# Altium footprint library ECU.PcbLib: 19 footprints (part 1 of 2)
Each footprint in its own frame and in the unit in brackets; x right, y up, seen from the top. Pads: shape width x height; smd on the part's side, far side on the other; paste and mask are expansions set on the pad; w line width, h text height; cw(c..) or ccw(c..) is an arc to the next point about the centre after c.
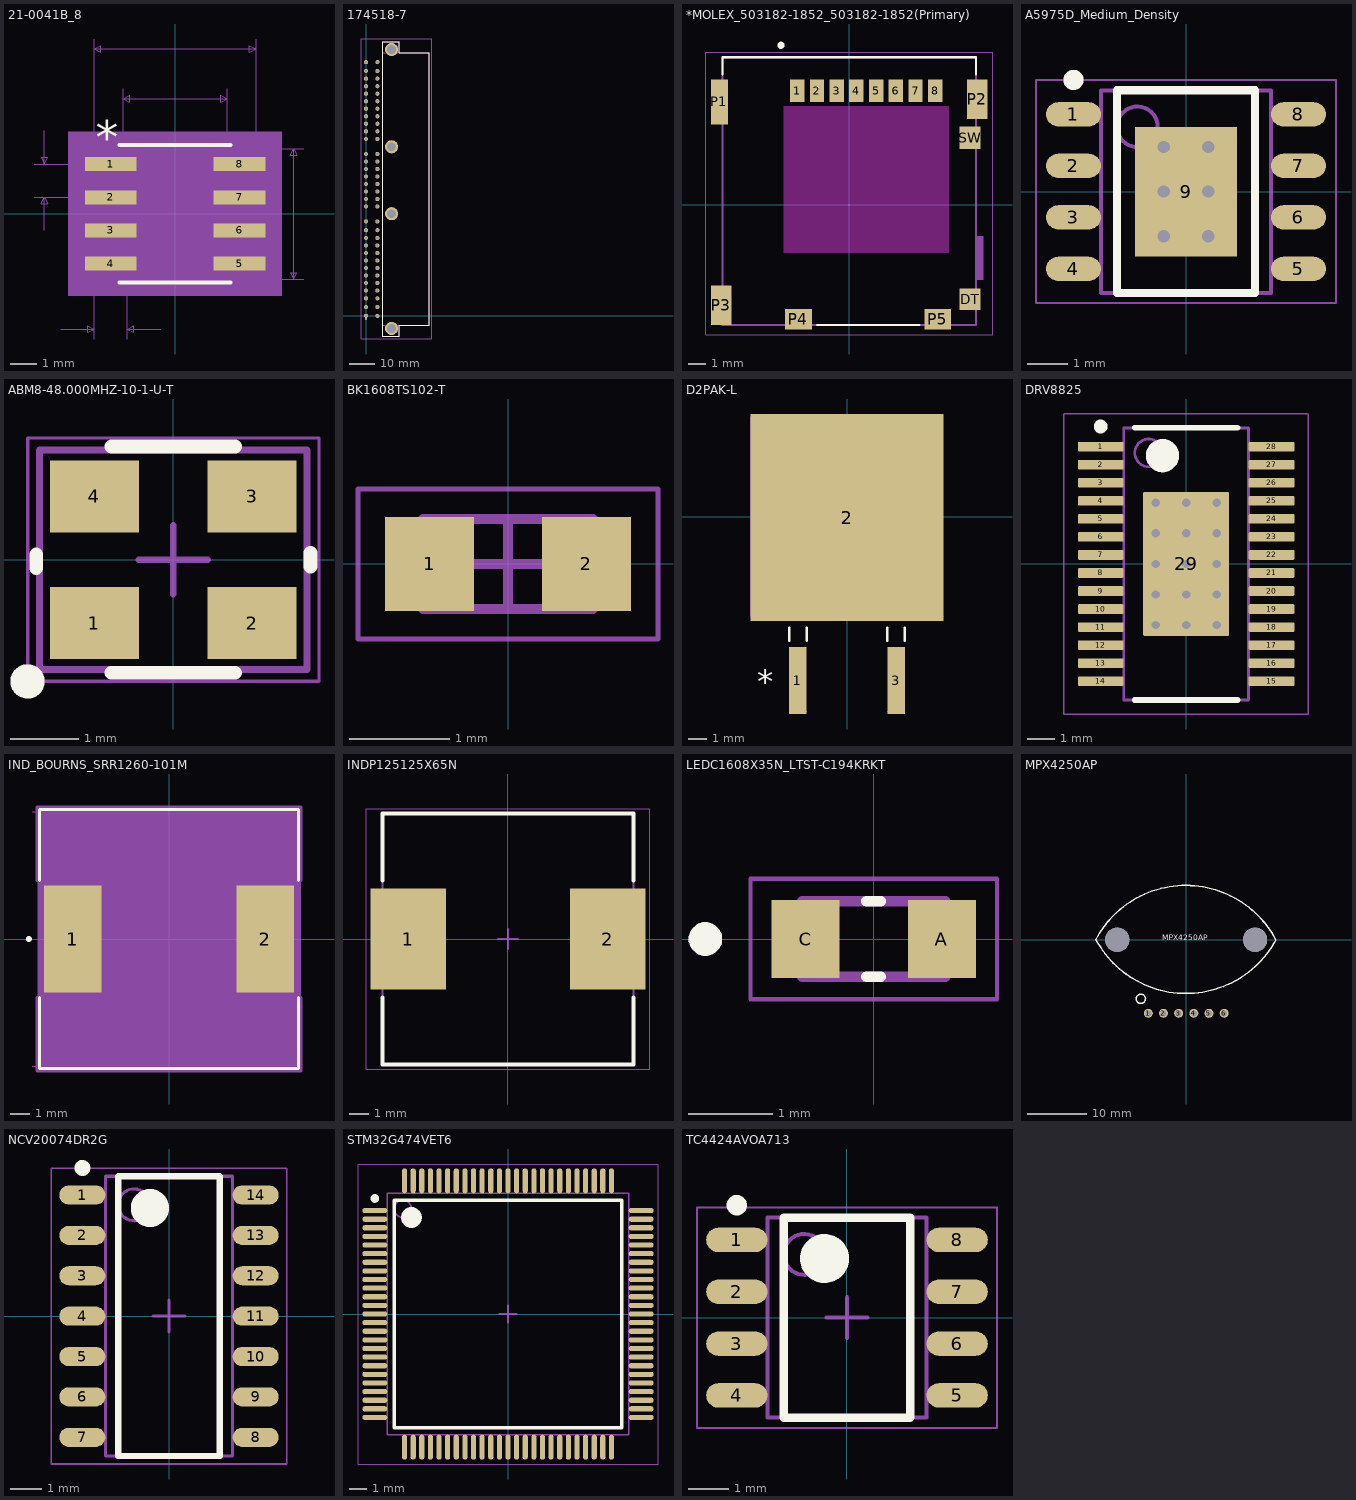
[diagram p0: the footprints below, top view; thin cyan lines are the x and y axes]

## 21-0041B_8 [mil]
pads (8):
  rect 78x21 smd paste+0 mask+0: 1(-97,75) 2(-97,25) 3(-97,-25) 4(-97,-75) 5(97,-75) 6(97,-25) 7(97,25) 8(97,75)
Top Overlay:
  lines w6: -83.5,-103.5 83.5,-103.5 ; -83.5,103.5 83.5,103.5
  text "*" at -119.5,91 h50
Mechanical 5:
  region: 161,-123.5 -161,-123.5 -161,123.5 161,123.5
Mechanical 7:
  lines w1: -212,25 -97,25 ; -212,75 -97,75 ; -197,-25 -197,25 ; -197,125 -197,75 ; -172,-173.5 -122,-173.5 ; -122,-188.5 -122,0 -122,263.5 ; -78.5,0 -78.5,188.5 ; -72,-188.5 -72,0 ; -22,-173.5 -72,-173.5 ; 0,-98.5 193.5,-98.5 ; 0,98.5 193.5,98.5 ; 78.5,0 78.5,188.5 ; 122,0 122,263.5 ; -197,25 -202,15 -192,15 -197,25 ; -197,75 -202,85 -192,85 -197,75 ; -122,-173.5 -132,-168.5 -132,-178.5 -122,-173.5 ; -122,248.5 122,248.5 ; -122,248.5 -112,253.5 -112,243.5 -122,248.5 ; -78.5,173.5 78.5,173.5 ; -78.5,173.5 -68.5,178.5 -68.5,168.5 -78.5,173.5 ; -72,-173.5 -62,-168.5 -62,-178.5 -72,-173.5 ; 78.5,173.5 68.5,178.5 68.5,168.5 78.5,173.5 ; 122,248.5 112,253.5 112,243.5 122,248.5 ; 178.5,-98.5 178.5,98.5 ; 178.5,-98.5 173.5,-88.5 183.5,-88.5 178.5,-98.5 ; 178.5,98.5 173.5,88.5 183.5,88.5 178.5,98.5
  text "Default Padstyle: RX78Y21D0T" at -350,-298.5 h50
  text "Pin One Padstyle: RX78Y21D0T" at -350,-358.5 h50
  text "Alt 1 Padstyle: OX60Y90D30P" at -337.5,-538.5 h50
  text "Alt 2 Padstyle: OX90Y60D30P" at -337.5,-598.5 h50
  text "0.157in/3.988mm" at -93.75,193.5 h25
  text "0.244in/6.198mm" at -93.75,268.5 h25
  text "0.197in/5.004mm" at 198.5,-12.5 h25
  text "0.05in/1.27mm" at -379.5,37.5 h25
  text "0.05in/1.27mm" at -178.25,-218.5 h25
Mechanical 13:
  lines w0: -12,98.5 ccw(c0,98.5) 12,98.5
  lines w1: -122,-84.5 -122,-65.5 -78.5,-65.5 -78.5,-84.5 -122,-84.5 ; -122,-34.5 -122,-15.5 -78.5,-15.5 -78.5,-34.5 -122,-34.5 ; -122,15.5 -122,34.5 -78.5,34.5 -78.5,15.5 -122,15.5 ; -122,65.5 -122,84.5 -78.5,84.5 -78.5,65.5 -122,65.5 ; -78.5,-98.5 78.5,-98.5 78.5,98.5 -78.5,98.5 -78.5,-98.5 ; 78.5,-84.5 78.5,-65.5 122,-65.5 122,-84.5 78.5,-84.5 ; 78.5,-34.5 78.5,-15.5 122,-15.5 122,-34.5 78.5,-34.5 ; 78.5,15.5 78.5,34.5 122,34.5 122,15.5 78.5,15.5 ; 78.5,65.5 78.5,84.5 122,84.5 122,65.5 78.5,65.5
  text "*" at -76,45.5 h50
Mechanical 15:
  region: -88.5,-95.5 -146,-95.5 -146,95.5 -88.5,95.5 -88.5,108.5 88.5,108.5 88.5,95.5 146,95.5 146,-95.5 88.5,-95.5 88.5,-108.5 -88.5,-108.5
  lines w6: -146,-95.5 -146,95.5 -88.5,95.5 -88.5,108.5 88.5,108.5 88.5,95.5 146,95.5 146,-95.5 88.5,-95.5 88.5,-108.5 -88.5,-108.5 -88.5,-95.5 -146,-95.5
3D body: height 10, standoff 0, extent 0,0 10,10

## 174518-7 [mm] "174518-7"
pads (68):
  round 1.65 hole 1.1: 1(0,0) 2(0,3.5) 3(0,7) 4(4.5,0) 5(4.5,3.5) 6(4.5,7) 7(0,34.2) 8(0,37.7) 9(4.5,34.2) 10(4.5,37.7) 11(0,70.6) 12(4.5,70.6) 13(0,97.8) 14(0,101.3) 15(4.5,97.8) 16(4.5,101.3) 17(0,10.1) 18(0,13.1) 19(0,16.1) 20(0,19.1) 21(0,22.1) 22(0,25.1) 23(0,28.1) 24(0,31.1) 25(4.5,10.1) 26(4.5,13.1) 27(4.5,16.1) 28(4.5,19.1) 29(4.5,22.1) 30(4.5,25.1) 31(4.5,28.1) 32(4.5,31.1) 33(0,43.65) 34(0,46.65) 35(0,49.65) 36(0,52.65) 37(0,55.65) 38(0,58.65) 39(0,61.65) 40(0,64.65) 41(4.5,43.65) 42(4.5,46.65) 43(4.5,49.65) 44(4.5,52.65) 45(4.5,55.65) 46(4.5,58.65) 47(4.5,61.65) 48(4.5,64.65) 49(0,73.7) 50(0,76.7) 51(0,79.7) 52(0,82.7) 53(0,85.7) 54(0,88.7) 55(0,91.7) 56(0,94.7) 57(4.5,73.7) 58(4.5,76.7) 59(4.5,79.7) 60(4.5,82.7) 61(4.5,85.7) 62(4.5,88.7) 63(4.5,91.7) 64(4.5,94.7)
  round 5.25 hole 3.5: MH1(10.2,106.35) MH2(10.2,67.5) MH3(10.2,40.8) MH4(10.2,-5.05)
Top Layer keep-out:
  region: 115.189,52.65
Top Overlay:
  lines w0.1: 6.7,-8.25 6.7,109.55 13.2,109.55 13.2,105.15 25.2,105.15 25.2,-3.85 13.2,-3.85 13.2,-8.25 6.7,-8.25
  lines w0.2: -0.1,-1.2 cw(c0,-1.2) 0.1,-1.2 cw(c0,-1.2) -0.1,-1.2
Mechanical 13:
  lines w0.2: 13.2,-3.85 13.2,-8.25 6.7,-8.25 6.7,-3.85 ; 13.2,105.15 13.2,109.55 6.7,109.55 6.7,105.15 ; 6.7,-3.85 25.2,-3.85 25.2,105.15 6.7,105.15 ; 6.7,-3.85 6.7,105.15
Mechanical 15:
  lines w0.1: -1.825,-9.25 26.2,-9.25 26.2,110.55 -1.825,110.55 -1.825,-9.25
3D body "c-178764-1-d2-3d.stp": height 22.5, standoff -4.4, extent -0.31,-8.2 25.51,109.6

## *MOLEX_503182-1852_503182-1852(Primary) [mm]
pads (15):
  rect 0.8x1.24 smd: 1(-2.9,6.355) 2(-1.8,6.355) 3(-0.7,6.355) 4(0.4,6.355) 5(1.5,6.355) 6(2.6,6.355) 7(3.7,6.355) 8(4.8,6.355)
  rect 1.16x1.2 smd: DT(6.74,-5.275)
  rect 0.95x2.5 smd: P1(-7.245,5.725)
  rect 1.15x2.2 smd: P2(7.145,5.875) P3(-7.145,-5.605)
  rect 1.5x1.15 smd: P4(-2.84,-6.4) P5(4.94,-6.4)
  rect 1.16x1.25 smd: SW(6.74,3.725)
Top Layer keep-out:
  region: -3.659,0.725 5.55,0.725 5.55,-2.682 -3.659,-2.682
  region: -3.658,5.485 5.55,5.485 5.55,0.727 -3.658,0.727
  region: -3.656,5.485 5.55,5.485 5.55,0.726 -3.656,0.726
  region: -3.655,5.485 5.55,5.485 5.55,0.726 -3.655,0.726
  region: -3.658,5.485 5.55,5.485 5.55,0.727 -3.658,0.727
  region: -3.656,5.485 5.55,5.485 5.55,0.726 -3.656,0.726
  region: -3.655,5.485 5.55,5.485 5.55,0.726 -3.655,0.726
  region: -3.658,5.485 5.55,5.485 5.55,0.727 -3.658,0.727
  region: -3.655,5.485 5.55,5.485 5.55,0.726 -3.655,0.726
  region: -3.659,0.725 5.55,0.725 5.55,-2.682 -3.659,-2.682
  region: -3.659,0.725 5.55,0.725 5.55,-2.682 -3.659,-2.682
  region: -3.656,5.485 5.55,5.485 5.55,0.726 -3.656,0.726
Top Overlay:
  circle w0.2: c-3.81,8.89 r0.1
  lines w0.127: -7.07,7.28 -7.07,8.225 7.07,8.225 7.07,7.28 ; -1.8,-6.725 3.9,-6.725
Mechanical 13:
  lines w0.127: -7.07,-6.725 -7.07,8.225 ; -7.07,-6.725 7.07,-6.725 ; -7.07,-6.725 -7.07,8.225 ; -7.07,-6.725 7.07,-6.725 ; -7.07,8.225 7.07,8.225 ; -7.07,8.225 7.07,8.225 ; 7.07,-6.725 7.07,8.225 ; 7.07,-6.725 7.07,8.225
Mechanical 15:
  region: 7.085,-1.775 7.47,-1.775 7.47,-4.184 7.085,-4.184
  lines w0.05: -8,-7.25 -8,8.5 8,8.5 8,-7.25 -8,-7.25
3D body "5031821852--3DModel-STEP-56544.STEP": height 1.45, standoff -0.02, extent -7.44,-6.675 7.5,8.275

## A5975D_Medium_Density [mm] "SOP, 8-Leads, Body 4.90x4.00mm, Pitch 1.27mm, Thermal Pad 3.20x2.51mm, IPC Medium Density"
height 1.7
pads (9):
  oval 1.35x0.6 smd: 1(-2.775,1.905) 2(-2.775,0.635) 3(-2.775,-0.635) 4(-2.775,-1.905) 5(2.775,-1.905) 6(2.775,-0.635) 7(2.775,0.635) 8(2.775,1.905)
  rect 2.51x3.2 smd: 9(0,0)
via 0.55,-1.1 diameter 0.6 hole 0.3
via -0.55,1.1 diameter 0.6 hole 0.3
via 0.55,1.1 diameter 0.6 hole 0.3
via 0.55,0 diameter 0.6 hole 0.3
via -0.55,0 diameter 0.6 hole 0.3
via -0.55,-1.1 diameter 0.6 hole 0.3
Top Overlay:
  circle w0.25: c-2.775,2.755 r0.125
  lines w0.2: -1.7,-2.5 1.7,-2.5 1.7,2.5 -1.7,2.5 -1.7,-2.5
Mechanical 13:
  circle w0.1: c-1.2,1.6 r0.5
  lines w0.1: -2.1,-2.5 2.1,-2.5 2.1,2.5 -2.1,2.5 -2.1,-2.5
Mechanical 15:
  lines w0.05: -3.7,-2.75 3.7,-2.75 3.7,2.75 -3.7,2.75 -3.7,-2.75
  lines w0.1: -0.5,0 0.5,0 ; 0,-0.5 0,0.5
3D body "A5975D_Medium_Density.step": height 1.7, standoff 0, extent -2.998,-2.5 2.998,2.5

## ABM8-48.000MHZ-10-1-U-T [mm] "ABM8-48.000MHZ-10-1-U-T"
height 1.2
pads (4):
  rect 1.3x1.05 smd: 1(-1.15,-0.925) 2(1.15,-0.925) 3(1.15,0.925) 4(-1.15,0.925)
Top Overlay:
  circle w0.25: c-2.125,-1.775 r0.125
  lines w0.2: -2,-0.125 -2,0.075 ; -0.906,-1.65 0.9,-1.65 ; -0.906,1.65 0.9,1.65 ; 2,-0.1 2,0.1
Mechanical 13:
  lines w0.1: -1.95,-1.6 -1.95,1.6 1.95,1.6 1.95,-1.6 -1.95,-1.6
Mechanical 15:
  lines w0.05: -2.125,-1.775 -2.125,1.775 2.125,1.775 2.125,-1.775 -2.125,-1.775
  lines w0.1: -0.5,0 0.5,0 ; 0,-0.5 0,0.5
3D body: height 1.2, standoff 0, extent -1.9,-1.55 1.9,1.55

## BK1608TS102-T [mm] "Chip Inductor, 2-Leads, Body 1.60x0.80mm, IPC Medium Density"
height 0.95
pads (2):
  rect 0.89x0.94 smd: 1(-0.785,0) 2(0.785,0)
Mechanical 13:
  lines w0.1: -0.85,-0.45 -0.85,0.45 0.85,0.45 0.85,-0.45 -0.85,-0.45
Mechanical 15:
  lines w0.05: -1.5,-0.75 -1.5,0.75 1.5,0.75 1.5,-0.75 -1.5,-0.75
  lines w0.1: -0.45,0 0.45,0 ; 0,-0.45 0,0.45
3D body "BK1608TS102-T.step": height 0.95, standoff 0, extent -0.85,-0.45 0.85,0.45

## D2PAK-L [mil]
pads (3):
  rect 37x142 smd paste+0 mask+0: 1(-103.94,-347.5) 3(103.94,-347.5)
  rect 409x439 smd paste+0 mask+0: 2(0,-2)
Top Overlay:
  lines w6: -122.44,-262.5 -122.44,-235.5 ; -85.44,-262.5 -85.44,-235.5 ; 85.44,-262.5 85.44,-235.5 ; 122.44,-262.5 122.44,-235.5
  text "*" at -190,-375 h50
Mechanical 13:
  lines w1: -204.5,211.5 -204.5,-211.5 204.5,-211.5 ; -122.44,-412.5 -85.44,-412.5 ; -122.44,-211.5 -85.44,-211.5 ; 85.44,-412.5 122.44,-412.5 ; 85.44,-211.5 122.44,-211.5
  text "*" at -116.44,-226.5 h50
3D body "D2PAK-M.step": height 181.1, standoff -2.01, extent -205.24,-313.98 203.74,216.65

## DRV8825 [mm]
pads (29):
  rrect29% 1.65x0.35 smd: 1(-3.075,4.225) 2(-3.075,3.575) 3(-3.075,2.925) 4(-3.075,2.275) 5(-3.075,1.625) 6(-3.075,0.975) 7(-3.075,0.325) 8(-3.075,-0.325) 9(-3.075,-0.975) 10(-3.075,-1.625) 11(-3.075,-2.275) 12(-3.075,-2.925) 13(-3.075,-3.575) 14(-3.075,-4.225) 15(3.075,-4.225) 16(3.075,-3.575) 17(3.075,-2.925) 18(3.075,-2.275) 19(3.075,-1.625) 20(3.075,-0.975) 21(3.075,-0.325) 22(3.075,0.325) 23(3.075,0.975) 24(3.075,1.625) 25(3.075,2.275) 26(3.075,2.925) 27(3.075,3.575) 28(3.075,4.225)
  rrect3% 3.1x5.18 smd: 29(0,0)
via -1.1,2.2 diameter 0.6 hole 0.3
via 0,2.2 diameter 0.6 hole 0.3
via 1.1,2.2 diameter 0.6 hole 0.3
via -1.1,1.1 diameter 0.6 hole 0.3
via 0,1.1 diameter 0.6 hole 0.3
via 1.1,1.1 diameter 0.6 hole 0.3
via -1.1,0 diameter 0.6 hole 0.3
via 0,0 diameter 0.6 hole 0.3
via 1.1,0 diameter 0.6 hole 0.3
via -1.1,-1.1 diameter 0.6 hole 0.3
via 0,-1.1 diameter 0.6 hole 0.3
via 1.1,-1.1 diameter 0.6 hole 0.3
via -1.1,-2.2 diameter 0.6 hole 0.3
via 0,-2.2 diameter 0.6 hole 0.3
via 1.1,-2.2 diameter 0.6 hole 0.3
Top Overlay:
  circle w0.25: c-3.075,4.95 r0.125
  circle w0.6: c-0.85,3.9 r0.3
  lines w0.2: -1.85,-4.9 1.85,-4.9 ; -1.85,4.9 1.85,4.9
Mechanical 13:
  circle w0.1: c-1.35,4 r0.5
  lines w0.1: -2.25,-4.9 -2.25,4.9 2.25,4.9 2.25,-4.9 -2.25,-4.9
Mechanical 15:
  lines w0.05: -4.41,5.396 -4.41,-5.404 4.39,-5.404 4.39,5.396 ; -4.4,5.4 4.4,5.4
  lines w0.1: -0.5,0 0.5,0 ; 0,-0.5 0,0.5
3D body: height 1.2, standoff 0.05, extent -2.25,-4.9 2.25,4.9

## IND_BOURNS_SRR1260-101M [mil]
pads (2):
  rect 114x213 smd: 1(-191,0) 2(191,0)
Top Overlay:
  circle w6: c-278,0 r3
  lines w6: -257,-116.02 -257,-257 257,-257 257,-116.02 ; -257,116.02 -257,257 257,257 257,116.02
Mechanical 5:
  region: 261,-260 -260,-260 -260,261 261,261
Mechanical 7:
  lines w1: -271.5,-252 262,-252 ; -271.5,252 262,252 ; -256.5,-252 -256.5,252 ; -256.5,-252 -261.5,-242 -251.5,-242 -256.5,-252 ; -256.5,252 -261.5,242 -251.5,242 -256.5,252
Mechanical 13:
  circle w0: c-249,0 r3
  lines w1: -252,-252 -252,252 252,252 252,-252 -252,-252
Mechanical 15:
  region: -262,-116.5 -258,-116.5 -258,116.5 -262,116.5 -262,262 262,262 262,116.5 258,116.5 258,-116.5 262,-116.5 262,-262 -262,-262
  lines w6: -262,-262 -262,-116.5 -258,-116.5 -258,116.5 -262,116.5 -262,262 262,262 262,116.5 258,116.5 258,-116.5 262,-116.5 262,-262 -262,-262
3D body "IND_BOURNS_SRR1260.step": height 255.98, standoff 0, extent -251.99,-252.08 252.02,252.09
3D body: height 10, standoff 0, extent 0,0 10,10

## INDP125125X65N [mm] "Precision Wire Wound Inductor, 2-Leads, Body 12.50x12.50mm, IPC Medium Density"
height 6.5
pads (2):
  rect 3.85x5.15 smd: 1(-5.075,0) 2(5.075,0)
Top Overlay:
  lines w0.2: -6.4,-2.975 -6.4,-6.4 6.4,-6.4 6.4,-2.975 ; -6.4,2.975 -6.4,6.4 6.4,6.4 6.4,2.975
Mechanical 13:
  lines w0.1: -6.4,-6.4 -6.4,6.4 6.4,6.4 6.4,-6.4 -6.4,-6.4
Mechanical 15:
  lines w0.05: -7.225,-6.65 -7.225,6.65 7.225,6.65 7.225,-6.65 -7.225,-6.65
  lines w0.1: -0.5,0 0.5,0 ; 0,-0.5 0,0.5
3D body: height 6.5, standoff 0, extent -6.4,-6.4 6.4,6.4

## LEDC1608X35N_LTST-C194KRKT [mm] "LEDC1608X35N_LTST-C194KRKT"
pads (2):
  rect 0.81x0.93 smd: A(0.81,0) C(-0.81,0)
Top Overlay:
  circle w0.2: c-2,0 r0.1
  lines w0.127: -0.085,-0.45 0.085,-0.45 ; -0.085,0.45 0.085,0.45
Mechanical 4:
  circle w0.2: c-2,0 r0.1
  circle w0.2: c-2,0 r0.1
  lines w0.127: -0.85,-0.45 0.85,-0.45 ; -0.85,-0.45 -0.85,0.45 ; -0.85,-0.45 0.85,-0.45 ; -0.85,-0.45 -0.85,0.45 ; -0.85,0.45 0.85,0.45 ; -0.85,0.45 0.85,0.45 ; 0.85,-0.45 0.85,0.45 ; 0.85,-0.45 0.85,0.45
Mechanical 16:
  lines w0.05: -1.465,-0.715 1.465,-0.715 1.465,0.715 -1.465,0.715 -1.465,-0.715
3D body "LTST-C190KRKT--3DModel-STEP-56544.STEP": height 0.8, standoff 0, extent -0.8,-0.4 0.8,0.4

## MPX4250AP [mm] "MPX4250AP"
pads (8):
  round 1.508 hole 1: 1(-6.35,-12.32) 2(-3.81,-12.32) 3(-1.27,-12.32) 4(1.27,-12.32) 5(3.81,-12.32) 6(6.35,-12.32)
  round 4.04 hole 4.04 unplated: ""(-11.55,0) ""(11.55,0)
Top Overlay:
  circle w0.254: c-7.6,-9.9 r0.781
  lines w0.254: -15.145,0.062 ccw(c-0.037,8.124) 15.032,-0.009 ; -15.118,0.076 cw(c-0.074,-7.952) 15.019,-0.016
  text "MPX4250AP" at -4,-0.4 h1.52
3D body "MPX4250AP_Right_angle_header.stp": height 9.64, standoff 0, extent -15.205,-12.548 14.595,20.152

## NCV20074DR2G [mm] "NCV20074DR2G"
height 1.75
pads (14):
  oval 1.45x0.6 smd: 1(-2.725,3.81) 2(-2.725,2.54) 3(-2.725,1.27) 4(-2.725,0) 5(-2.725,-1.27) 6(-2.725,-2.54) 7(-2.725,-3.81) 8(2.725,-3.81) 9(2.725,-2.54) 10(2.725,-1.27) 11(2.725,0) 12(2.725,1.27) 13(2.725,2.54) 14(2.725,3.81)
Top Overlay:
  circle w0.6: c-0.6,3.4 r0.3
  circle w0.25: c-2.725,4.66 r0.125
  lines w0.2: -1.6,-4.4 1.6,-4.4 1.6,4.4 -1.6,4.4 -1.6,-4.4
Mechanical 13:
  circle w0.1: c-1.1,3.5 r0.5
  lines w0.1: -2,-4.4 2,-4.4 2,4.4 -2,4.4 -2,-4.4
Mechanical 15:
  lines w0.05: -3.7,-4.65 3.7,-4.65 3.7,4.65 -3.7,4.65 -3.7,-4.65
  lines w0.1: -0.5,0 0.5,0 ; 0,-0.5 0,0.5
3D body "NCV20074DR2G.step": height 1.75, standoff 0, extent -3,-4.4 3,4.4

## RBO40-40G/T [mm] "RBO40-40G/T"

## STM32G474VET6 [mm] "TSQFP, 100-Leads, Body 14.00x14.00mm, Pitch 0.50mm, IPC Medium Density"
height 1.6
pads (100):
  oval 1.45x0.3 smd: 1(-7.725,6) 2(-7.725,5.5) 3(-7.725,5) 4(-7.725,4.5) 5(-7.725,4) 6(-7.725,3.5) 7(-7.725,3) 8(-7.725,2.5) 9(-7.725,2) 10(-7.725,1.5) 11(-7.725,1) 12(-7.725,0.5) 13(-7.725,0) 14(-7.725,-0.5) 15(-7.725,-1) 16(-7.725,-1.5) 17(-7.725,-2) 18(-7.725,-2.5) 19(-7.725,-3) 20(-7.725,-3.5) 21(-7.725,-4) 22(-7.725,-4.5) 23(-7.725,-5) 24(-7.725,-5.5) 25(-7.725,-6) 51(7.725,-6) 52(7.725,-5.5) 53(7.725,-5) 54(7.725,-4.5) 55(7.725,-4) 56(7.725,-3.5) 57(7.725,-3) 58(7.725,-2.5) 59(7.725,-2) 60(7.725,-1.5) 61(7.725,-1) 62(7.725,-0.5) 63(7.725,0) 64(7.725,0.5) 65(7.725,1) 66(7.725,1.5) 67(7.725,2) 68(7.725,2.5) 69(7.725,3) 70(7.725,3.5) 71(7.725,4) 72(7.725,4.5) 73(7.725,5) 74(7.725,5.5) 75(7.725,6)
  oval 0.3x1.45 smd: 26(-6,-7.725) 27(-5.5,-7.725) 28(-5,-7.725) 29(-4.5,-7.725) 30(-4,-7.725) 31(-3.5,-7.725) 32(-3,-7.725) 33(-2.5,-7.725) 34(-2,-7.725) 35(-1.5,-7.725) 36(-1,-7.725) 37(-0.5,-7.725) 38(0,-7.725) 39(0.5,-7.725) 40(1,-7.725) 41(1.5,-7.725) 42(2,-7.725) 43(2.5,-7.725) 44(3,-7.725) 45(3.5,-7.725) 46(4,-7.725) 47(4.5,-7.725) 48(5,-7.725) 49(5.5,-7.725) 50(6,-7.725) 76(6,7.725) 77(5.5,7.725) 78(5,7.725) 79(4.5,7.725) 80(4,7.725) 81(3.5,7.725) 82(3,7.725) 83(2.5,7.725) 84(2,7.725) 85(1.5,7.725) 86(1,7.725) 87(0.5,7.725) 88(0,7.725) 89(-0.5,7.725) 90(-1,7.725) 91(-1.5,7.725) 92(-2,7.725) 93(-2.5,7.725) 94(-3,7.725) 95(-3.5,7.725) 96(-4,7.725) 97(-4.5,7.725) 98(-5,7.725) 99(-5.5,7.725) 100(-6,7.725)
Top Overlay:
  circle w0.6: c-5.6,5.6 r0.3
  circle w0.25: c-7.725,6.7 r0.125
  lines w0.2: -6.6,-6.6 6.6,-6.6 6.6,6.6 -6.6,6.6 -6.6,-6.6
Mechanical 13:
  circle w0.1: c-6.1,6.1 r0.5
  lines w0.1: -7,-7 7,-7 7,7 -7,7 -7,-7
Mechanical 15:
  lines w0.05: -8.7,-8.7 8.7,-8.7 8.7,8.7 -8.7,8.7 -8.7,-8.7
  lines w0.1: -0.5,0 0.5,0 ; 0,-0.5 0,0.5
3D body "STM32G474VET6.step": height 1.6, standoff 0, extent -8,-8 8,8

## TC4424AVOA713 [mm] "SOIC, 8-Leads, Body 4.90x3.90mm, Pitch 1.27mm, IPC Medium Density"
height 1.75
pads (8):
  oval 1.5x0.6 smd: 1(-2.7,1.905) 2(-2.7,0.635) 3(-2.7,-0.635) 4(-2.7,-1.905) 5(2.7,-1.905) 6(2.7,-0.635) 7(2.7,0.635) 8(2.7,1.905)
Top Overlay:
  circle w0.25: c-2.7,2.755 r0.125
  circle w0.6: c-0.55,1.45 r0.3
  lines w0.2: -1.55,-2.45 -1.55,2.45 1.55,2.45 1.55,-2.45 -1.55,-2.45
Mechanical 13:
  circle w0.1: c-1.05,1.55 r0.5
  lines w0.1: -1.95,-2.45 -1.95,2.45 1.95,2.45 1.95,-2.45 -1.95,-2.45
Mechanical 15:
  lines w0.05: -3.675,-2.7 -3.675,2.7 3.675,2.7 3.675,-2.7 -3.675,-2.7
  lines w0.1: -0.5,0 0.5,0 ; 0,-0.5 0,0.5
3D body "TC4424AVOA713.step": height 1.75, standoff 0, extent -3,-2.45 3,2.45